# Altium schematic symbol library MOSFET,N Ch,20V,915mA.Schlib: 1 symbol
Pins are listed as number, name and electrical type; pins without a type are passive.

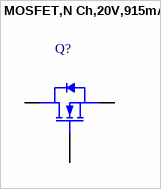
[diagram p0: symbol MOSFET,N Ch,20V,915mA]

## MOSFET,N Ch,20V,915mA
designator Q?
pins: 1 G, 2 S, 3 D